# Altium footprint library MOS管.PcbLib: 14 footprints
Each footprint in its own frame and in the unit in brackets; x right, y up, seen from the top. Pads: shape width x height; smd on the part's side, far side on the other; paste and mask are expansions set on the pad; w line width, h text height; cw(c..) or ccw(c..) is an arc to the next point about the centre after c.
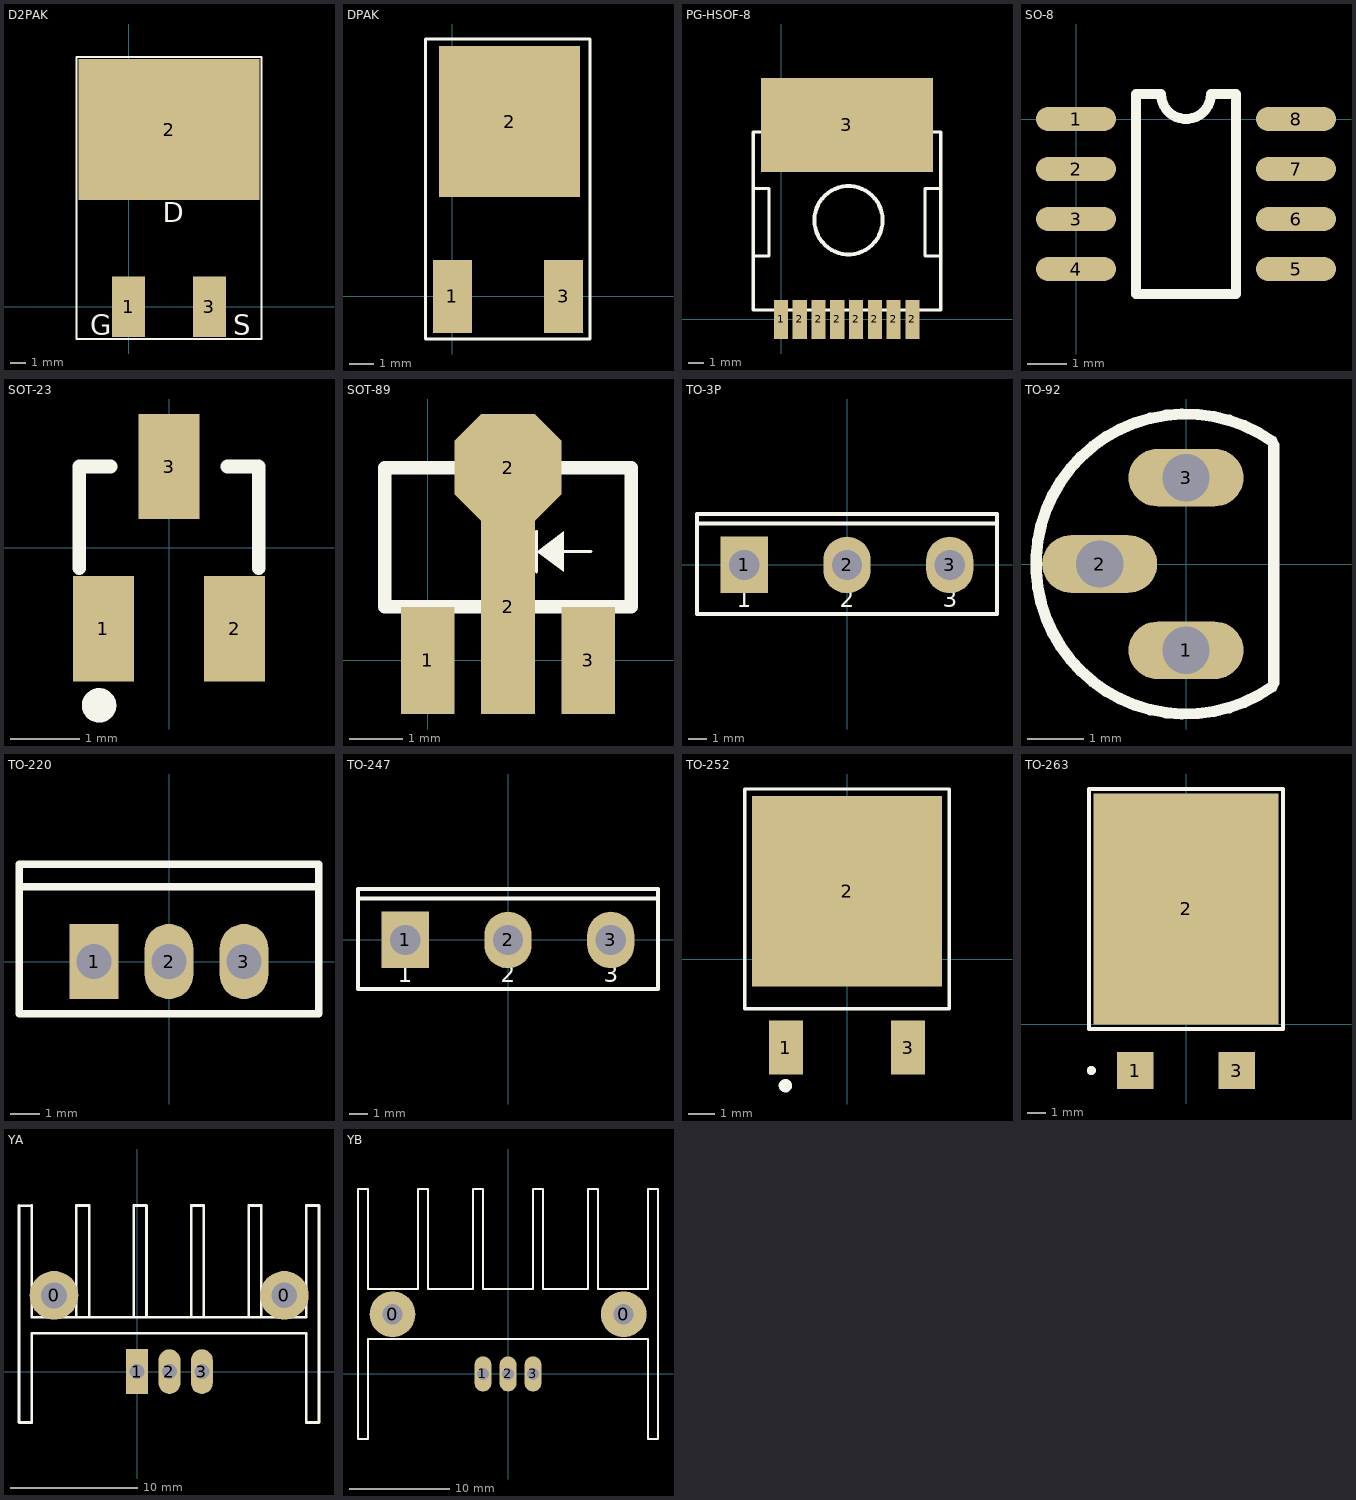
[diagram p0: the footprints below, top view; thin cyan lines are the x and y axes]

## D2PAK [mm]
pads (3):
  rect 2.08x3.81 smd: 1(0,0) 3(5.08,0)
  rect 11.43x8.89 smd: 2(2.54,11.176)
Top Overlay:
  lines w0.127: -3.302,-2.032 8.382,-2.032 8.382,15.748 -3.302,15.748 -3.302,-2.032
  text "G" at -2.413,-1.778 h1.27
  text "S" at 6.604,-1.778 h1.27
  text "D" at 2.159,5.334 h1.27

## DPAK [mm]
pads (3):
  rect 1.6x3 smd: 1(0,0) 3(4.572,0)
  rect 5.8x6.2 smd: 2(2.35,7.18)
Top Overlay:
  lines w0.127: -1.1,-1.75 5.65,-1.75 5.65,10.575 -1.1,10.575 -1.1,-1.75

## PG-HSOF-8 [mm]
pads (9):
  rect 0.9x2.5 smd: 1(0,0) 2(1.2,0) 2(2.4,0) 2(3.6,0) 2(4.8,0) 2(6,0) 2(7.2,0) 2(8.4,0)
  rect 11x6 smd: 3(4.216,12.446)
Top Overlay:
  circle w0.254: c4.318,6.35 r2.185
  lines w0.2: -1.778,4.064 -0.762,4.064 -0.762,8.382 -1.778,8.382 ; 10.222,4.064 9.206,4.064 9.206,8.382 10.222,8.382 ; -1.778,0.6 10.222,0.6 10.222,12 -1.778,12 -1.778,0.6

## SO-8 [mil] "贴片-IC"
pads (8):
  oval 80x24 smd: 1(0,0) 2(0,-50) 3(0,-100) 4(0,-150) 5(220,-150) 6(220,-100) 7(220,-50) 8(220,0)
Top Overlay:
  lines w10: 60,-175 160,-175 160,25 135,25 cw(c110,25) 85,25 60,25 60,-175

## SOT-23 [mil] "SOT-23; 3 Leads; Body 3.1 x 2.5 mm, inc. leads (LxW max), Alternate Lead Configuration"
height 43.31
pads (3):
  rect 35x60 smd: 1(-37.4,-46.26) 2(37.4,-46.26) 3(0,46.26)
Top Overlay:
  circle w9.84: c-39.92,-90 r4.92
  lines w7.87: -51.18,-11.81 -51.18,46.26 -33.46,46.26 ; 33.46,46.26 51.18,46.26 51.18,-11.81

## SOT-89 [mm]
pads (4):
  rect 1x2 smd: 1(0,0) 3(3,0)
  rect 1x4 smd: 2(1.5,1)
  oct 2x2 smd: 2(1.5,3.6)
Top Overlay:
  region: 2.54,2.413 2.54,1.651 2.032,2.032
  lines w0.05: 1.524,2.032 2.032,2.032 ; 2.032,1.651 2.032,2.413 ; 2.54,2.032 3.048,2.032
  lines w0.254: -0.8,1 -0.8,3.6 3.8,3.6 3.8,1 -0.8,1

## TO-3P [mm]
height 24.6
pads (3):
  rect 2.5x3 hole 1.6: 1(-5.45,0)
  oval 2.5x3 hole 1.6: 2(0,0) 3(5.45,0)
Top Overlay:
  lines w0.2: -7.95,2.2 7.95,2.2 ; -7.95,-2.6 7.95,-2.6 7.95,2.7 -7.95,2.7 -7.95,-2.6
  text "1" at -5.842,-2.54 h1.52
  text "2" at -0.381,-2.54 h1.52
  text "3" at 5.08,-2.54 h1.52

## TO-92 [mil]
height 209.84
pads (3):
  oval 80x40 hole 33: 1(0,-60) 2(-60,0) 3(0,60)
Top Overlay:
  lines w7.87: 59.84,-85.46 cw(c0,0) 59.84,85.46 ; 61.02,-82.68 61.02,82.68

## TO-220 [mil] "TO"
pads (3):
  rect 65x100 hole 47: 1(-100,0)
  oval 65x100 hole 47: 2(0,0) 3(100,0)
Top Overlay:
  lines w10: -200,100 200,100 ; -200,-70 200,-70 200,130 -200,130 -200,-70

## TO-247 [mm] "SIP with Mounting Hole; 3 Leads; Body 20 x 15.6 x 5 mm (typ); Pitch 5.45 mm"
height 24.6
pads (3):
  rect 2.5x3 hole 1.6: 1(-5.45,0)
  oval 2.5x3 hole 1.6: 2(0,0) 3(5.45,0)
Top Overlay:
  lines w0.2: -7.95,2.2 7.95,2.2 ; -7.95,-2.6 -7.95,2.7 7.95,2.7 7.95,-2.6 -7.95,-2.6
  text "3" at 5.08,-2.54 h1.52
  text "2" at -0.381,-2.54 h1.52
  text "1" at -5.842,-2.54 h1.52

## TO-252 [mil]
height 98.43
pads (3):
  rect 50x80 smd: 1(-90,-130) 3(90,-130)
  rect 280x280 smd: 2(0,100)
Top Overlay:
  circle w9.84: c-90.55,-186.02 r4.92
  lines w5: -150,-72.83 150,-72.83 150,250 -150,250 -150,-72.83

## TO-263 [mil]
height 68.9
pads (3):
  rect 80x80 smd: 1(-110,-100) 3(110,-100)
  rect 400x500 smd: 2(0,250)
Top Overlay:
  circle w9.84: c-204.92,-100 r4.92
  lines w7.99: -210,510 210,510
  lines w8: -210,510 -210,-10 210,-10 210,510

## YA [mil] "中散热器"
pads (5):
  round 150 hole 80: 0(-256,235)
  round 150 hole 79: 0(454,235)
  rect 67x138 hole 47: 1(0,0)
  oval 67x138 hole 47: 2(100,0) 3(200,0)
Top Overlay:
  lines w8: -364,511 -325,511 ; -364,512 -364,-157 -325,-157 -325,118 522,118 522,-157 561,-157 561,512 522,512 522,167 -325,167 -325,512 ; -187,167 -187,512 -148,512 -148,167 ; -10,167 -10,512 29,512 29,167 ; 167,167 167,512 206,512 206,167 ; 344,167 344,512 383,512 383,167

## YB [mil] "大散热器"
pads (5):
  round 180 hole 79: 0(-455,235) 0(455,235)
  oval 67x138 hole 47: 1(-99,0) 2(0,0) 3(98,0)
Top Overlay:
  lines w8: -591,-256 -551,-256 -551,138 551,138 551,-256 590,-256 590,728 551,728 551,335 354,335 354,728 315,728 315,335 138,335 138,728 98,728 98,335 -99,335 -99,728 -139,728 -139,335 -316,335 -316,728 -355,728 -355,335 -551,335 -551,728 -591,728 -591,-256